# Altium footprint library TQFP-64.PcbLib: 1 footprints
Each footprint in its own frame and in the unit in brackets; x right, y up, seen from the top. Pads: shape width x height; smd on the part's side, far side on the other; paste and mask are expansions set on the pad; w line width, h text height; cw(c..) or ccw(c..) is an arc to the next point about the centre after c.
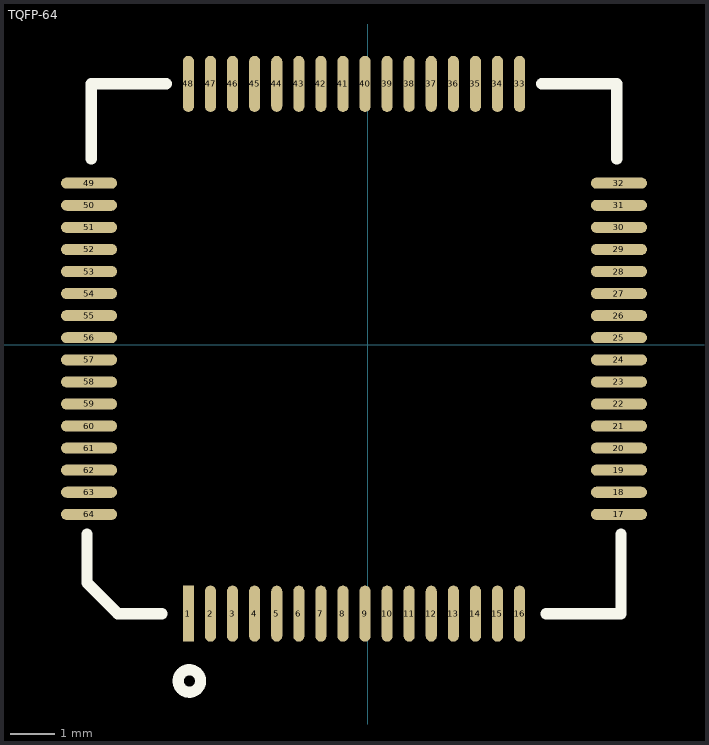
[diagram p0: the footprint, top view; thin cyan lines are the x and y axes]

## TQFP-64 [mm] "TQFP-64"
pads (64):
  rect 0.25x1.27 smd: 1(-4.064,-6.096)
  oval 0.25x1.27 smd: 2(-3.564,-6.096) 3(-3.064,-6.096) 4(-2.564,-6.096) 5(-2.064,-6.096) 6(-1.564,-6.096) 7(-1.064,-6.096) 8(-0.564,-6.096) 9(-0.064,-6.096) 10(0.436,-6.096) 11(0.936,-6.096) 12(1.436,-6.096) 13(1.936,-6.096) 14(2.436,-6.096) 15(2.936,-6.096) 16(3.436,-6.096) 33(3.436,5.904) 34(2.936,5.904) 35(2.436,5.904) 36(1.936,5.904) 37(1.436,5.904) 38(0.936,5.904) 39(0.436,5.904) 40(-0.064,5.904) 41(-0.564,5.904) 42(-1.064,5.904) 43(-1.564,5.904) 44(-2.064,5.904) 45(-2.564,5.904) 46(-3.064,5.904) 47(-3.564,5.904) 48(-4.064,5.904)
  oval 1.27x0.25 smd: 17(5.686,-3.846) 18(5.686,-3.346) 19(5.686,-2.846) 20(5.686,-2.346) 21(5.686,-1.846) 22(5.686,-1.346) 23(5.686,-0.846) 24(5.686,-0.346) 25(5.686,0.154) 26(5.686,0.654) 27(5.686,1.154) 28(5.686,1.654) 29(5.686,2.154) 30(5.686,2.654) 31(5.686,3.154) 32(5.686,3.654) 49(-6.314,3.654) 50(-6.314,3.154) 51(-6.314,2.654) 52(-6.314,2.154) 53(-6.314,1.654) 54(-6.314,1.154) 55(-6.314,0.654) 56(-6.314,0.154) 57(-6.314,-0.346) 58(-6.314,-0.846) 59(-6.314,-1.346) 60(-6.314,-1.846) 61(-6.314,-2.346) 62(-6.314,-2.846) 63(-6.314,-3.346) 64(-6.314,-3.846)
Top Overlay:
  circle w0.254: c-4.044,-7.62 r0.254
  lines w0.254: -6.364,-4.296 -6.364,-5.396 -5.664,-6.096 -4.664,-6.096 ; -6.264,4.204 -6.264,5.904 -4.564,5.904 ; 3.936,5.904 5.636,5.904 5.636,4.204 ; 4.036,-6.096 5.736,-6.096 5.736,-4.296